# EAGLE library part NLAST44599 (library STM32-PROX)
NLAST44599 Low Voltage Single Supply Dual DPDT Analog Switch DataSheet <http://www.onsemi.com/pub_link/Collateral/NLAST44599-D.PDF> The NLAST44599 is an advanced CMOS dual-independent DPDT (double pole-double throw) analog switch, fabricated with silicon gate CMOS technology. It achieves high-speed propagation delays and low ON resistances while maintaining CMOS low-power dissipation. This DPDT controls analog and digital voltages that may vary across the full power-supply range (from VCC to GND). The device has been designed so the ON resistance (RON) is much lower and more linear over input voltage than RON of typical CMOS analog switches. The channel-select input structure provides protection when voltages between 0 V and 5.5 V are applied, regardless of the supply voltage. This input structure helps prevent device destruction caused by supply voltage - input/output voltage mismatch, battery backup, hot insertion, etc. The NLAST44599 can also be used as a quad 2-to-1 multiplexer- demultiplexer analog switch with two Select pins that each controls two multiplexer-demultiplexers
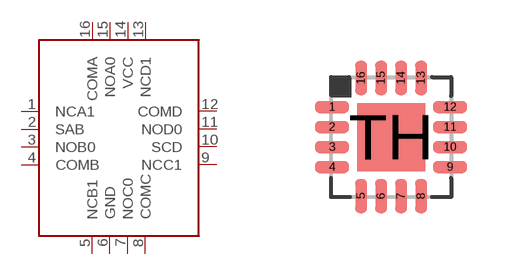
[diagram p8: symbol with the pads of QFN16; footprint QFN16]

Designator prefix -

## NLAST44599  [QFN16]
1  NCA1
2  SAB
3  NOB0
4  COMB
5  NCB1
6  GND  pwr
7  NOC0
8  COMC
9  NCC1
10  SCD
11  NOD0
12  COMD
13  NCD1
14  VCC  pwr
15  NOA0
16  COMA

## Footprint QFN16 (pad centres in mm)
smd 0.85 x 0.3: 1 -1.475,0.75; 2 -1.475,0.25; 3 -1.475,-0.25; 4 -1.475,-0.75; 9 1.475,-0.75; 10 1.475,-0.25; 11 1.475,0.25; 12 1.475,0.75
smd 0.3 x 0.85: 5 -0.75,-1.475; 6 -0.25,-1.475; 7 0.25,-1.475; 8 0.75,-1.475; 13 0.75,1.475; 14 0.25,1.475; 15 -0.25,1.475; 16 -0.75,1.475
smd 1.7 x 1.7: TH 0,0